# Altium schematic symbol library Power_DiscreteSSR_1.SCHLIB: 79 symbols (part 1 of 3)
Pins are listed as number, name and electrical type; pins without a type are passive.

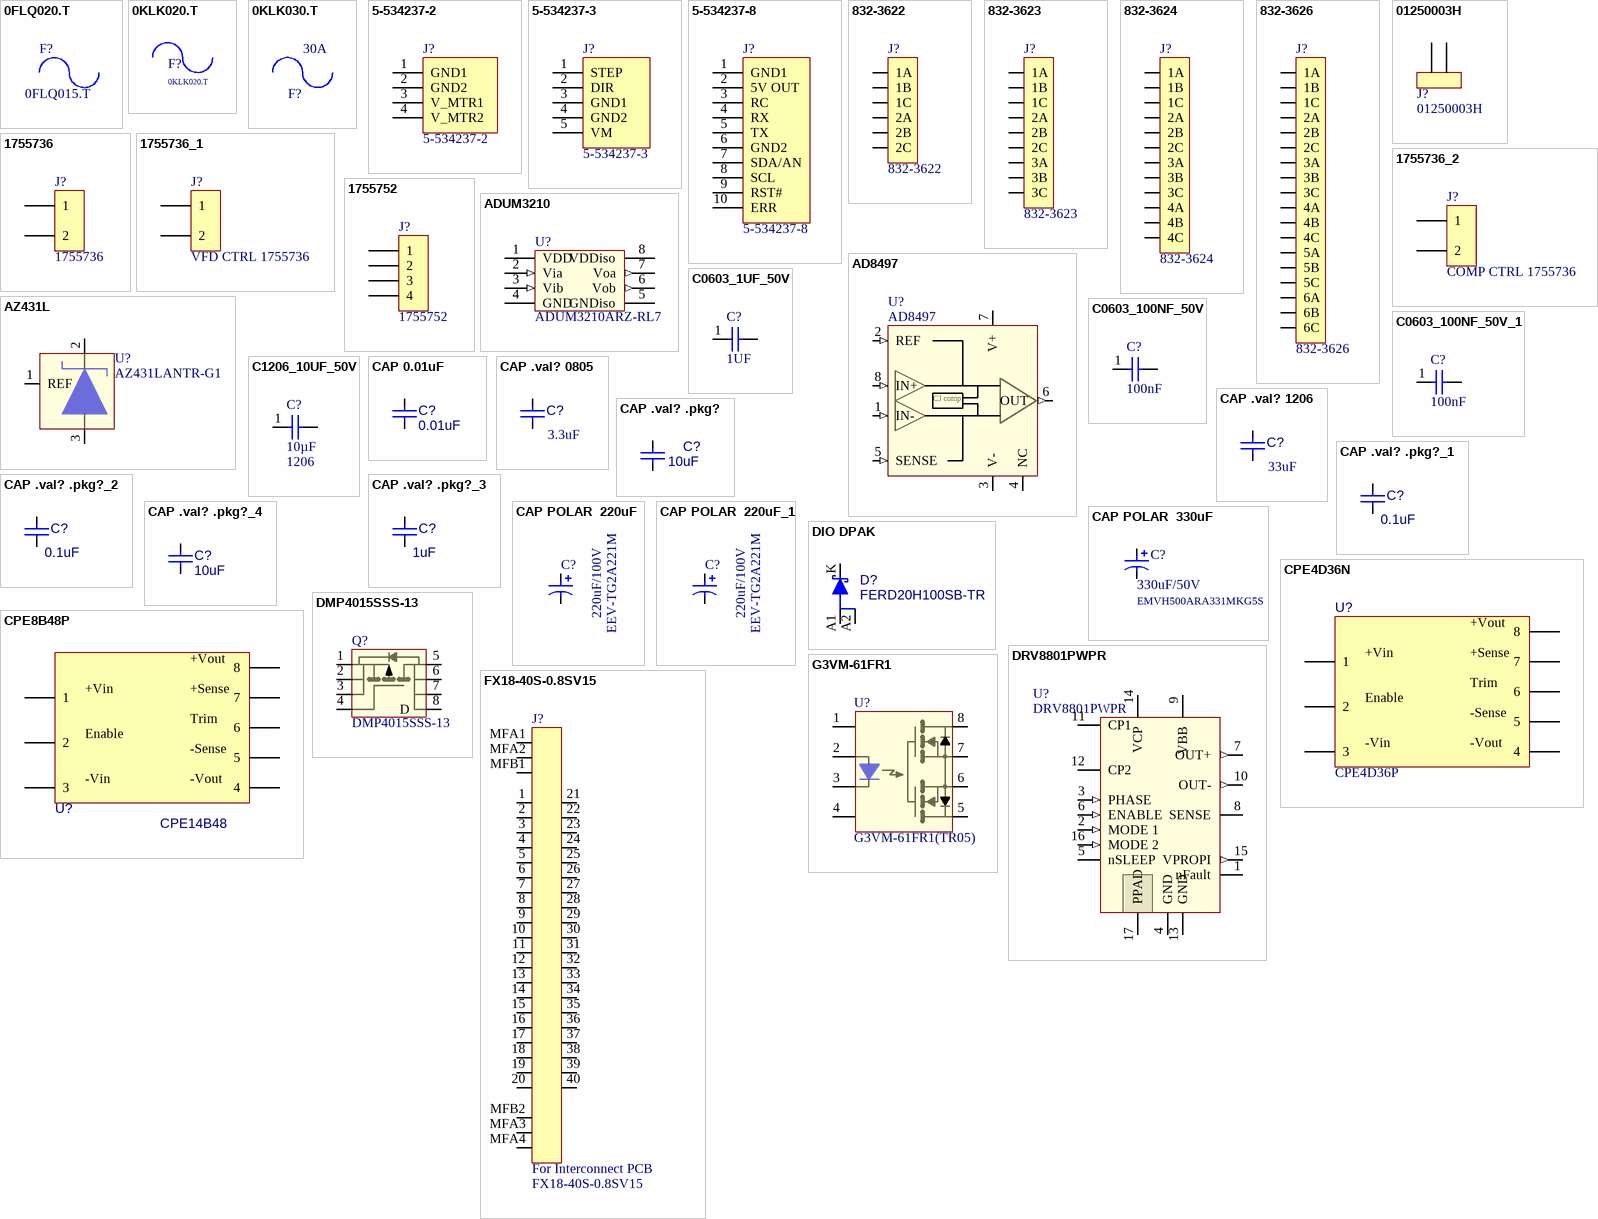
[diagram p0: symbols 0FLQ020.T to G3VM-61FR1]

## 0FLQ020.T
designator F?, comment 0FLQ015.T  (mechanical)
FUSE, 15A, 500V, SLOW BLOW; Manufacturer 1: Littelfuse; Type: Electrical; Current Rating: 1.5A; Resistance: 383.5mR; Voltage Rating (DC): 300V; Blow Characteristic: TIME DELAY; Approvals: UL,CSA; ComponentLink1URL: https://datasheet.ciiva.com/317/littelfuse-fuse-klk-317844.pdf?src-supplier=Digi-Key; ComponentLink1Description: https://datasheet.ciiva.com/317/littelfuse-fuse-klk-317844.pdf?src-supplier=Digi-Key; ComponentLink2URL: https://datasheet.ciiva.com/14102/epklk-dat-e-14102718.pdf?src-supplier=Distrelec; ComponentLink2Description: https://datasheet.ciiva.com/14102/epklk-dat-e-14102718.pdf?src-supplier=Distrelec; ComponentLink3URL: https://datasheet.ciiva.com/1548/1842486-1548255.pdf?src-supplier=Element14; ComponentLink3Description: https://datasheet.ciiva.com/1548/1842486-1548255.pdf?src-supplier=Element14; Supplier 1: Arrow Electronics; Supplier Part Number 1: 0FLQ015.T; Manufacturer Part Number 1: 0FLQ015.T; RoHS: Yes; Category: Fuses; Stock 1: 5; Pricing 1: 1=4.53100, 5=4.31900, 10=3.30800, 25=3.21500, 50=3.21100, 100=3.07600, 10=16.01000, 100=15.57000, 1000=13.14000, 5000=12.04000, 10000=12.03000 (USD); Mount: Holder,Clip,Surface Mount; Number of Pins: 2; Min Operating Temperature: -55°C; Max Operating Temperature: 125°C; Package Quantity: 10; Packaging: Bulk; Voltage Rating (AC): 500V; Termination: Clip; Fuse Current: 15A; Series: FLQ; Diameter: 0.406inch; Length: 38.1mm; Radiation Hardening: No; RoHS Compliant: Yes; REACH SVHC: No SVHC; Lead Free: Lead Free; Manufacturer: Littelfuse; Manufacturer Part Number: 0FLQ015.T

## 0KLK020.T
designator F?  (mechanical)
FUSE CARTRIDGE 20A 600VAC/500VDC; Manufacturer: Littelfuse; Body Material: Ceramic; Voltage Rating: 600V; Voltage Rating (DC): 500V; Type: Electrical; Resistance: 4.21mR; Approvals: UL,CSA,CE,QPL; Supplier 1: Mouser; RoHS: Yes; Category: Fuses; Stock 1: 180; Pricing 1: 1=14.23000, 5=13.95000, 10=12.79000, 20=12.79000, 50=12.40000, 100=10.46000 (USD); Mount: Holder,Clip; Min Operating Temperature: -55°C; Max Operating Temperature: 125°C; Package Quantity: 10; Packaging: Bulk; Termination: Clip; Current Rating: 20A; Voltage Rating (AC): 600V; Fuse Current: 20A; Working Voltage: 600V; Diameter: 0.406inch; Length: 38.1mm; Lead Free: Lead Free; REACH SVHC: Unknown; ComponentLink1URL: https://datasheet.ciiva.com/317/littelfuse-fuse-klk-317844.pdf?src-supplier=Digi-Key; ComponentLink1Description: https://datasheet.ciiva.com/317/littelfuse-fuse-klk-317844.pdf?src-supplier=Digi-Key; ComponentLink2URL: https://datasheet.ciiva.com/14102/epklk-dat-e-14102718.pdf?src-supplier=Distrelec; ComponentLink2Description: https://datasheet.ciiva.com/14102/epklk-dat-e-14102718.pdf?src-supplier=Distrelec; ComponentLink3URL: https://datasheet.ciiva.com/1548/1842486-1548255.pdf?src-supplier=Element14; ComponentLink3Description: https://datasheet.ciiva.com/1548/1842486-1548255.pdf?src-supplier=Element14; Manufacturer Part Number: 0KLK020.T

## 0KLK030.T
designator F?  Current Rating: 30A  (hidden comment: 0KLK030.T)  (mechanical)
FUSE CARTRIDGE 30A 600VAC/500VDC; Manufacturer: Littelfuse; Voltage Rating (DC): 500V; Voltage Rating (AC): 600V; Type: Electrical; Resistance: 2.816mR; Approvals: UL,CSA,CE,QPL; Supplier 1: Arrow; Manufacturer Part Number: 0KLK030.T; RoHS: Yes; Category: Fuses; Stock 1: 400; Pricing 1: 1=7.53700, 1=8.44690, 5=8.18000, 10=7.88100, 20=7.69900, 50=7.51500, 100=7.03100, 200=6.76700, 500=6.51300, 1000=6.25800 (USD); Mount: Holder,Clip; Number of Pins: 2; Min Operating Temperature: -55°C; Max Operating Temperature: 125°C; Package Quantity: 10; Voltage Rating: 600V; Packaging: Bulk; Termination: Clip; Fuse Current: 30A; Working Voltage: 600V; Diameter: 10.31mm; Length: 38.1mm; Radiation Hardening: No; Lead Free: Lead Free; REACH SVHC: Unknown; ComponentLink1URL: https://datasheet.ciiva.com/14102/epklk-dat-e-14102720.pdf?src-supplier=Distrelec; ComponentLink1Description: https://datasheet.ciiva.com/14102/epklk-dat-e-14102720.pdf?src-supplier=Distrelec; ComponentLink2URL: https://datasheet.ciiva.com/1548/1842486-1548256.pdf?src-supplier=Element14; ComponentLink2Description: https://datasheet.ciiva.com/1548/1842486-1548256.pdf?src-supplier=Element14; ComponentLink3URL: https://datasheet.ciiva.com/317/littelfuse-fuse-klk-317843.pdf?src-supplier=Digi-Key; ComponentLink3Description: https://datasheet.ciiva.com/317/littelfuse-fuse-klk-317843.pdf?src-supplier=Digi-Key; Supplier Part Number 1: 0KLK030.T

## 5-534237-2
designator J?
CONN RCPT 4POS 0.1 GOLD PCB; Manufacturer: TE Connectivity AMP Connectors; Connector Type: Header, Unshrouded; Number of Positions: 4; Number of Positions Loaded: All; Pitch: 0.100" (2.54mm); RoHS: RoHS Compliant; Category: Connectors, Interconnects; Stock 1: 5,967; Pricing 1: 1=1.45000, 10=1.31100, 100=1.12410, 500=0.93678, 1,000=0.80295, 5,000=0.71195 (USD); Packaging: Tube; Contact Type: Female Socket; Number of Rows: 1; Row Spacing: -; Contact Mating Length: 0.148" (3.76mm); Mounting Type: Through Hole; Termination: Solder; Fastening Type: -; Features: -; Contact Finish: Gold; Contact Finish Thickness: 15µin (0.38µm); Color: Black; Supplier 1: Digi-Key; Supplier Part Number 1: A32905-ND; Manufacturer Part Number: 5-534237-2; Manufacturer 1: TE Connectivity AMP Connectors; Manufacturer Part Number 1: 5-534237-2; ComponentLink1Description: https://www.te.com/commerce/DocumentDelivery/DDEController?Action=srchrtrv&DocNm=534237&DocType=Customer+Drawing&DocLang=English; ComponentLink1URL: https://www.te.com/commerce/DocumentDelivery/DDEController?Action=srchrtrv&DocNm=534237&DocType=Customer+Drawing&DocLang=English
footprint TE_5-534237-2
pins: 1 GND1, 2 GND2, 3 V_MTR1, 4 V_MTR2

## 5-534237-3
designator J?
CONN RCPT 5POS 0.1 GOLD PCB; Manufacturer: TE Connectivity AMP Connectors; Connector Type: Header, Unshrouded; Number of Positions: 5; Number of Positions Loaded: All; Pitch: 0.100" (2.54mm); RoHS: RoHS Compliant; Category: Connectors, Interconnects; Stock 1: 4,078; Pricing 1: 1=1.55000, 10=1.41000, 100=1.20900, 500=1.00748, 1,000=0.86355, 5,000=0.76568 (USD); Packaging: Tube; Contact Type: Female Socket; Number of Rows: 1; Row Spacing: -; Contact Mating Length: 0.148" (3.76mm); Mounting Type: Through Hole; Termination: Solder; Fastening Type: -; Features: -; Contact Finish: Gold; Contact Finish Thickness: 15µin (0.38µm); Color: Black; Supplier 1: Digi-Key; Supplier Part Number 1: A32906-ND; Manufacturer Part Number: 5-534237-3; Manufacturer 1: TE Connectivity AMP Connectors; Manufacturer Part Number 1: 5-534237-3; ComponentLink1Description: https://www.te.com/commerce/DocumentDelivery/DDEController?Action=srchrtrv&DocNm=534237&DocType=Customer+Drawing&DocLang=English; ComponentLink1URL: https://www.te.com/commerce/DocumentDelivery/DDEController?Action=srchrtrv&DocNm=534237&DocType=Customer+Drawing&DocLang=English
footprint TE_5-534237-3
pins: 1 STEP, 2 DIR, 3 GND1, 4 GND2, 5 VM

## 5-534237-8
designator J?
CONN RCPT 10POS 0.1 GOLD PCB; Manufacturer: TE Connectivity AMP Connectors; Connector Type: Header, Unshrouded; Number of Positions: 10; Number of Positions Loaded: All; Pitch: 0.100" (2.54mm); RoHS: RoHS Compliant; Category: Connectors, Interconnects; Stock 1: 2,637; Pricing 1: 1=2.45000, 10=2.22700, 100=1.90890, 500=1.59076, 1,000=1.36350 5,000=1.20897 (USD); Packaging: Tube; Contact Type: Female Socket; Number of Rows: 1; Row Spacing: -; Contact Mating Length: 0.148" (3.76mm); Mounting Type: Through Hole; Termination: Solder; Fastening Type: -; Features: -; Contact Finish: Gold; Contact Finish Thickness: 15µin (0.38µm); Color: Black; Supplier 1: Digi-Key; Supplier Part Number 1: A32910-ND; Manufacturer Part Number: 5-534237-8; Manufacturer 1: TE Connectivity AMP Connectors; Manufacturer Part Number 1: 5-534237-8; ComponentLink1Description: https://www.te.com/commerce/DocumentDelivery/DDEController?Action=srchrtrv&DocNm=534237&DocType=Customer+Drawing&DocLang=English; ComponentLink1URL: https://www.te.com/commerce/DocumentDelivery/DDEController?Action=srchrtrv&DocNm=534237&DocType=Customer+Drawing&DocLang=English
footprint TE_5-534237-8
pins: 1 GND1, 2 5V OUT, 3 RC, 4 RX, 5 TX, 6 GND2, 7 SDA/AN, 8 SCL, 9 RST#, 10 ERR

## 832-3622
designator J?
832 Series MCS MAXI 16 2 Pole Cage Clamp with Lever Through Hole Male Connector; Manufacturer: WAGO; Supplier 1: Newark; Manufacturer Part Number: 832-3622; Stock 1: 100; Pricing 1: 1=2.24000, 25=2.24000, 100=2.24000, 250=2.24000, 500=2.24000 (USD); ComponentLink1URL: http://datasheet.octopart.com/832-3622-WAGO-datasheet-121832905.pdf?src-supplier=Future+Electronics; ComponentLink1Description: http://datasheet.octopart.com/832-3622-WAGO-datasheet-121832905.pdf?src-supplier=Future+Electronics; ComponentLink2URL: http://datasheet.octopart.com/832-3622-WAGO-datasheet-140899062.pdf?src-supplier=Future+Electronics; ComponentLink2Description: http://datasheet.octopart.com/832-3622-WAGO-datasheet-140899062.pdf?src-supplier=Future+Electronics; Supplier Part Number 1: 85AC3341; System: Connector
footprint W-832-3622_6
pins: 1A, 1B, 1C, 2A, 2B, 2C

## 832-3623
designator J?
832 Series MCS MAXI 16 3 Pole Cage Clamp with Lever Through Hole Male Connector; Manufacturer: WAGO; Supplier 1: Newark; Manufacturer Part Number: 832-3623; Stock 1: 100; Pricing 1: 1=3.36000, 25=3.36000, 100=3.36000, 250=3.36000, 500=3.36000 (USD); ComponentLink1URL: http://datasheet.octopart.com/832-3623-WAGO-datasheet-121832906.pdf?src-supplier=Future+Electronics; ComponentLink1Description: http://datasheet.octopart.com/832-3623-WAGO-datasheet-121832906.pdf?src-supplier=Future+Electronics; ComponentLink2URL: http://datasheet.octopart.com/832-3623-WAGO-datasheet-140899063.pdf?src-supplier=Future+Electronics; ComponentLink2Description: http://datasheet.octopart.com/832-3623-WAGO-datasheet-140899063.pdf?src-supplier=Future+Electronics; Supplier Part Number 1: 85AC3342; System: Connector
footprint W-832-3623_9
pins: 1A, 1B, 1C, 2A, 2B, 2C, 3A, 3B, 3C

## 832-3624
designator J?
Terminal Block, Header, 10.16 mm, 4 Positions, 76 A, 1 kV, Through Hole Right Angle; Manufacturer: WAGO; System: Connector; Supplier 1: Newark; Manufacturer Part Number: 832-3624; RoHS: No; Stock 1: 40; Pricing 1: 1=4.46000, 25=4.46000, 100=4.46000, 250=4.46000, 500=4.46000 (USD); Supplier Part Number 1: 85AC3343
footprint W-832-3624_12
pins: 1A, 1B, 1C, 2A, 2B, 2C, 3A, 3B, 3C, 4A, 4B, 4C

## 832-3626
designator J?
Wago Serie 832 832-3626 - 832-3626; System: Connector; Supplier 1: Newark; Manufacturer: WAGO; Manufacturer Part Number: 832-3626; Stock 1: 20; Pricing 1: 1=6.70000, 25=6.70000, 100=6.70000, 250=6.70000, 500=6.70000 (USD); Supplier Part Number 1: 85AC3345
footprint W-832-3626_18
pins: 1A, 1B, 1C, 2A, 2B, 2C, 3A, 3B, 3C, 4A, 4B, 4C, 5A, 5B, 5C, 6A, 6B, 6C

## 01250003H
designator J?
Fuse Clip, 250 V, 250 V, 20 A, Cartridge Fuse Clip, Pin, 1 RoHS Compliant: Yes; Manufacturer: Littelfuse; Body Material: Copper; Current Rating: 30A; Voltage Rating (DC): 250V; Fuse Current: 20A; Number of Circuits: 1; Supplier 1: Future Electronics; Manufacturer Part Number: 01250003H; RoHS: Yes; Category: Fuses; Stock 1: 2695; Pricing 1: 1=2.62000, 30=2.35000, 100=2.26000, 300=2.18000, 1000=2.10000 (USD); Mount: Horizontal,PCB; Contact Plating: Tin; Material: Copper,Tin; Voltage Rating (AC): 250V; Packaging: Bulk; Package Quantity: 100; Voltage Rating: 250V; Termination: PC Pin; Voltage: 250V; Length: 12.4mm; Height: 18.7mm; Width: 12.4mm; Depth: 11.1mm; Lead Free: Lead Free; REACH SVHC: Unknown; ComponentLink1URL: https://datasheet.ciiva.com/15187/getdatasheetpartid-123617-15187910.pdf?src-supplier=Verical; ComponentLink1Description: https://datasheet.ciiva.com/15187/getdatasheetpartid-123617-15187910.pdf?src-supplier=Verical; ComponentLink2URL: https://datasheet.ciiva.com/295/0105-129-clips-295567.pdf?src-supplier=Digi-Key; ComponentLink2Description: https://datasheet.ciiva.com/295/0105-129-clips-295567.pdf?src-supplier=Digi-Key; ComponentLink3URL: https://datasheet.ciiva.com/1269/1480080-1269308.pdf?src-supplier=Element14; ComponentLink3Description: https://datasheet.ciiva.com/1269/1480080-1269308.pdf?src-supplier=Element14; Supplier Part Number 1: 01250003H-BOX; Manufacturer Part Number 2: 1A3400-10; Manufacturer 2: Bussmann-Eaton
footprint FUSE_CLIP_01250003H
pins: 1, 2

## 1755736
designator J?
Combicon Series Side Panels Plug In Vertical To Pcb 2pos 12a 250vac Green Plastic Housing 5.08mm Pitch 5.08mm Length; Manufacturer: Phoenix Contact; Voltage Rating: 250V; Number of Poles: 2; Number of Levels: 1; Voltage: 300V; Gender: Male; Approvals: UL,CSA,VDE,cULus,CB; System: Connector; Supplier 1: Digi-Key; Manufacturer Part Number: 1755736; RoHS: Yes; Category: Terminal Blocks; Stock 1: 14871; Pricing 1: 1=0.64000, 10=0.61600, 50=0.58900, 100=0.57300, 250=0.53552, 500=0.49266, 1000=0.45518, 2500=0.43375, 5000=0.40698 (USD); Mount: Through Hole; Weight: 5.467464oz; Color: Green; Contact Plating: Tin; Housing Color: Green; Housing Material: Polybutylene; Contact Material: Tin; Package Quantity: 50; Packaging: Bulk; Termination: Solder; Orientation: Straight; Voltage Rating (DC): 250V; Number of Rows: 1; Max Current Rating: 12A; Current Rating: 12A; Number of Positions Per Level: 2; Current: 12A; Number of Positions: 2; Number of Contacts: 2; Connector Type: Plug; Length: 12.16mm; Height: 12.16mm; Width: 15.9mm; Depth: 8.6mm; Pitch: 5.08mm; REACH SVHC: No SVHC; Lead Free: Lead Free; Flammability Rating: UL94 V-0; ComponentLink1URL: https://datasheet.ciiva.com/795/1755736-795408.pdf?src-supplier=Digi-Key; ComponentLink1Description: https://datasheet.ciiva.com/795/1755736-795408.pdf?src-supplier=Digi-Key; ComponentLink2URL: https://datasheet.ciiva.com/3934/1755736-3934562.pdf?src-supplier=Arrow; ComponentLink2Description: https://datasheet.ciiva.com/3934/1755736-3934562.pdf?src-supplier=Arrow; ComponentLink3URL: https://datasheet.ciiva.com/15197/getdatasheetpartid-176344-15197314.pdf?src-supplier=Verical; ComponentLink3Description: https://datasheet.ciiva.com/15197/getdatasheetpartid-176344-15197314.pdf?src-supplier=Verical; Supplier Part Number 1: 277-1150-ND; Supplier 2: Digi-Key; Supplier Part Number 2: 0447641803-ND
footprint PHX-1755736 (TERM BLOCK HDR 2POS VERT 5.08MM)
pins: 1, 2

## 1755736_1
designator J?, comment VFD CTRL 1755736
Combicon Series Side Panels Plug In Vertical To Pcb 2pos 12a 250vac Green Plastic Housing 5.08mm Pitch 5.08mm Length; Manufacturer: Phoenix Contact; Voltage Rating: 250V; Number of Poles: 2; Number of Levels: 1; Voltage: 300V; Gender: Male; Approvals: UL,CSA,VDE,cULus,CB; System: Connector; Supplier 1: Digi-Key; Manufacturer Part Number: 1755736; RoHS: Yes; Category: Terminal Blocks; Stock 1: 14871; Pricing 1: 1=0.64000, 10=0.61600, 50=0.58900, 100=0.57300, 250=0.53552, 500=0.49266, 1000=0.45518, 2500=0.43375, 5000=0.40698 (USD); Mount: Through Hole; Weight: 5.467464oz; Color: Green; Contact Plating: Tin; Housing Color: Green; Housing Material: Polybutylene; Contact Material: Tin; Package Quantity: 50; Packaging: Bulk; Termination: Solder; Orientation: Straight; Voltage Rating (DC): 250V; Number of Rows: 1; Max Current Rating: 12A; Current Rating: 12A; Number of Positions Per Level: 2; Current: 12A; Number of Positions: 2; Number of Contacts: 2; Connector Type: Plug; Length: 12.16mm; Height: 12.16mm; Width: 15.9mm; Depth: 8.6mm; Pitch: 5.08mm; REACH SVHC: No SVHC; Lead Free: Lead Free; Flammability Rating: UL94 V-0; ComponentLink1URL: https://datasheet.ciiva.com/795/1755736-795408.pdf?src-supplier=Digi-Key; ComponentLink1Description: https://datasheet.ciiva.com/795/1755736-795408.pdf?src-supplier=Digi-Key; ComponentLink2URL: https://datasheet.ciiva.com/3934/1755736-3934562.pdf?src-supplier=Arrow; ComponentLink2Description: https://datasheet.ciiva.com/3934/1755736-3934562.pdf?src-supplier=Arrow; ComponentLink3URL: https://datasheet.ciiva.com/15197/getdatasheetpartid-176344-15197314.pdf?src-supplier=Verical; ComponentLink3Description: https://datasheet.ciiva.com/15197/getdatasheetpartid-176344-15197314.pdf?src-supplier=Verical; Supplier Part Number 1: 277-1150-ND; Supplier 2: Digi-Key; Supplier Part Number 2: 0447641803-ND
footprint PHX-1755736 (TERM BLOCK HDR 2POS VERT 5.08MM)
pins: 1, 2

## 1755736_2
designator J?, comment COMP CTRL 1755736
Combicon Series Side Panels Plug In Vertical To Pcb 2pos 12a 250vac Green Plastic Housing 5.08mm Pitch 5.08mm Length; Manufacturer: Phoenix Contact; Voltage Rating: 250V; Number of Poles: 2; Number of Levels: 1; Voltage: 300V; Gender: Male; Approvals: UL,CSA,VDE,cULus,CB; System: Connector; Supplier 1: Digi-Key; Manufacturer Part Number: 1755736; RoHS: Yes; Category: Terminal Blocks; Stock 1: 14871; Pricing 1: 1=0.64000, 10=0.61600, 50=0.58900, 100=0.57300, 250=0.53552, 500=0.49266, 1000=0.45518, 2500=0.43375, 5000=0.40698 (USD); Mount: Through Hole; Weight: 5.467464oz; Color: Green; Contact Plating: Tin; Housing Color: Green; Housing Material: Polybutylene; Contact Material: Tin; Package Quantity: 50; Packaging: Bulk; Termination: Solder; Orientation: Straight; Voltage Rating (DC): 250V; Number of Rows: 1; Max Current Rating: 12A; Current Rating: 12A; Number of Positions Per Level: 2; Current: 12A; Number of Positions: 2; Number of Contacts: 2; Connector Type: Plug; Length: 12.16mm; Height: 12.16mm; Width: 15.9mm; Depth: 8.6mm; Pitch: 5.08mm; REACH SVHC: No SVHC; Lead Free: Lead Free; Flammability Rating: UL94 V-0; ComponentLink1URL: https://datasheet.ciiva.com/795/1755736-795408.pdf?src-supplier=Digi-Key; ComponentLink1Description: https://datasheet.ciiva.com/795/1755736-795408.pdf?src-supplier=Digi-Key; ComponentLink2URL: https://datasheet.ciiva.com/3934/1755736-3934562.pdf?src-supplier=Arrow; ComponentLink2Description: https://datasheet.ciiva.com/3934/1755736-3934562.pdf?src-supplier=Arrow; ComponentLink3URL: https://datasheet.ciiva.com/15197/getdatasheetpartid-176344-15197314.pdf?src-supplier=Verical; ComponentLink3Description: https://datasheet.ciiva.com/15197/getdatasheetpartid-176344-15197314.pdf?src-supplier=Verical; Supplier Part Number 1: 277-1150-ND; Supplier 2: Digi-Key; Supplier Part Number 2: 0447641803-ND
footprint PHX-1755736 (TERM BLOCK HDR 2POS VERT 5.08MM)
pins: 1, 2

## 1755752
designator J?
Terminal Header; 12 A; 250 V; 5.08 mm; 4; Solder Mount; 1.4 mm; 4 kV; 250 V; Manufacturer: Phoenix Contact; Current Rating: 12A; Number of Poles: 4; Voltage Rating: 250V; Number of Levels: 1; Voltage: 300V; Gender: Male; Connector Type: Plug; Pitch: 5.08mm; Approvals: UL,CSA,VDE,cULus,CB; System: Connector; Supplier 1: Digi-Key; Manufacturer Part Number: 1755752; RoHS: Yes; Category: Terminal Blocks; Stock 1: 9524; Pricing 1: 1=1.40000, 10=1.34000, 50=1.28200, 100=1.24710, 250=1.16552, 500=1.07226, 1000=0.99067, 2500=0.94405, 5000=0.88578 (USD); Mount: Through Hole; Weight: 5.467464oz; Color: Green,Grey; Contact Plating: Tin; Housing Color: Green; Housing Material: Polybutylene; Contact Material: Tin; Package Quantity: 50; Packaging: Bulk; Number of Rows: 1; Max Current Rating: 12A; Number of Positions Per Level: 4; Termination: Solder; Current: 12A; Number of Positions: 4; Number of Contacts: 4; Orientation: Straight; Voltage Rating (DC): 250V; Length: 22.32mm; Height: 15.9mm; Depth: 8.6mm; Width: 22.32mm; REACH SVHC: No SVHC; Lead Free: Lead Free; Flammability Rating: UL94 V-0; ComponentLink1URL: https://datasheet.ciiva.com/15197/getdatasheetpartid-198278-15197316.pdf?src-supplier=Verical; ComponentLink1Description: https://datasheet.ciiva.com/15197/getdatasheetpartid-198278-15197316.pdf?src-supplier=Verical; ComponentLink2URL: https://datasheet.ciiva.com/795/1755752-795435.pdf?src-supplier=Digi-Key; ComponentLink2Description: https://datasheet.ciiva.com/795/1755752-795435.pdf?src-supplier=Digi-Key; ComponentLink3URL: https://datasheet.ciiva.com/16096/1755752-16096364.pdf?src-supplier=Onlinecomponents.com; ComponentLink3Description: https://datasheet.ciiva.com/16096/1755752-16096364.pdf?src-supplier=Onlinecomponents.com; Supplier Part Number 1: 277-1152-ND
footprint PHX-1755752 (TERM BLOCK HDR 4POS VERT 5.08MM)
pins: 1, 2, 3, 4

## AD8497
designator U?
IC THERMOCOUPLE A W/COMP 8MSOP; Manufacturer: Analog Devices; Manufacturer Part Number: AD8497ARMZ; Max Supply Voltage: 18V; Min Supply Voltage: 2.7V; Nominal Supply Current: 180uA; Interface: Analog; Gain Bandwidth Product: 25kHz; Max Supply Current: 250uA; Supplier 1: Mouser; Supplier Part Number 1: 584-AD8497CRMZ; RoHS: Yes; Category: Integrated Circuits (ICs); Stock 1: 832; Pricing 1: 1=10.51000, 10=9.50000, 25=9.05000, 50=8.76000, 100=7.51000, 250=6.85000 (USD); Case/Package: MSOP; Number of Pins: 8; Contact Plating: Tin,Matte; Min Operating Temperature: -40°C; Max Operating Temperature: 125°C; Package Quantity: 50; Packaging: Rail/Tube; Operating Supply Current: 180uA; Output Type: Analog; Dual Supply Voltage: 18V; Length: 3.2mm; Height: 0.95mm; Width: 3.2mm; Lead Free: Lead Free; REACH SVHC: No SVHC; ComponentLink1URL: https://datasheet.ciiva.com/15098/getdatasheetpartid-292295-15098879.pdf?src-supplier=Verical; ComponentLink1Description: https://datasheet.ciiva.com/15098/getdatasheetpartid-292295-15098879.pdf?src-supplier=Verical; ComponentLink2URL: https://datasheet.ciiva.com/26838/ad8497crmz-26838665.pdf?src-supplier=IIIC; ComponentLink2Description: https://datasheet.ciiva.com/26838/ad8497crmz-26838665.pdf?src-supplier=IIIC; ComponentLink3URL: https://datasheet.ciiva.com/1781/ad8494-8495-8496-8497-1781910.pdf?src-supplier=Digi-Key; ComponentLink3Description: https://datasheet.ciiva.com/1781/ad8494-8495-8496-8497-1781910.pdf?src-supplier=Digi-Key; Manufacturer 1: Analog Devices; Manufacturer Part Number 1: AD8497ARMZ
footprint MSOP_8_12mil_space
pins: 1 IN- (in), 2 REF (in), 3 V- (power), 4 NC, 5 SENSE (in), 6 OUT (out), 7 V+ (power), 8 IN+ (in)
text: CJ comp

## ADUM3210
designator U?  Manufacturer Part Number 1: ADUM3210ARZ-RL7  (hidden comment: ADUM3210)
Digital Isolator CMOS 2-CH 1Mbps 8-Pin SOIC N T/R; Manufacturer 1: Analog Devices; Number of Channels: 2; Propagation Delay: 50ns; Min Supply Voltage: 2.7V; Max Supply Voltage: 5.5V; Nominal Supply Current: 800uA; Data Rate: 10Mbps; Channel Type: Unidirectional; Isolation Voltage: 560V; Isolated Power: No; Pulse Width Distortion (PWD): 5ns; Case/Package: R; Number of Pins: 8; Contact Plating: Tin,Matte; Min Operating Temperature: -40°C; Max Operating Temperature: 125°C; Package Quantity: 1000; Packaging: Tape and Reel; Number of Input Lines: 2; Turn-On Delay Time: 50ns; Type: General Purpose; Series: iCoupler®; Supply Current: 800uA; Lead Free: Contains Lead; RoHS Compliant: Yes; ComponentLink1URL: http://components.arrow.com/part/dataview/48250290S8419763N2771?src-supplier=Arrow+Electronics; ComponentLink1Description: http://components.arrow.com/part/dataview/48250290S8419763N2771?src-supplier=Arrow+Electronics; ComponentLink2URL: http://www.mouser.com/ds/2/609/ADuM3210-EP_3211-EP-879034.pdf?src-supplier=Mouser; ComponentLink2Description: http://www.mouser.com/ds/2/609/ADuM3210-EP_3211-EP-879034.pdf?src-supplier=Mouser; ComponentLink3URL: http://components.arrow.com/part/dataview/1762_00522917?src-supplier=Arrow+Europe; ComponentLink3Description: http://components.arrow.com/part/dataview/1762_00522917?src-supplier=Arrow+Europe; Pricing 1: 1=2.92000, 10=2.63000, 50=2.48000, 100=2.04000, 1000=1.55000, 10000=1.55000 (USD); Stock 1: 78; Category: Interface ICs; RoHS: Yes; Supplier Part Number 1: 584-ADUM3210ARZ-R7; Supplier 1: Mouser; Manufacturer: Analog Devices; Manufacturer Part Number: ADUM3210ARZ-RL7
footprint SOIC_8
pins: 1 VDD (power), 2 Via (in), 3 Vib (in), 4 GND (power), 5 GNDiso (power), 6 Vob (out), 7 Voa (out), 8 VDDiso (power)

## AZ431L
designator U?  Manufacturer Part Number: AZ431LANTR-G1  (hidden comment: AZ431L)
V-Ref Adjustable/Precision 1.24V to 18V 100mA 3-Pin TO-92 Ammo Pack; Manufacturer: Diodes; Reference Type: Shunt; Tolerance: 0.5%; Temperature Coefficient: 20ppm/°C; Cathode Current: 80uA; RoHS: Yes; Category: Voltage References; Stock 1: 288; Pricing 1: 1=0.45000, 10=0.33700, 25=0.30400, 100=0.16580, 250=0.16024 (USD); Mount: SMD; Case/Package: SOT23; Number of Pins: 3; Min Operating Temperature: -40°C; Max Operating Temperature: 125°C; Packaging: Tape and Reel; Output Current: 100mA; Output Type: Adjustable; Min Output Voltage: 1.24V; Package Quantity: 3000; Max Output Voltage: 18V; Output Voltage: 18V; Max Output Current: 100mA; Max Input Voltage: 18V; Radiation Hardening: No; ComponentLink1URL: https://datasheet.ciiva.com/29571/az431l-29571949.pdf?src-supplier=Digi-Key; ComponentLink1Description: https://datasheet.ciiva.com/29571/az431l-29571949.pdf?src-supplier=Digi-Key; ComponentLink2URL: https://datasheet.ciiva.com/30002/az431l-30002056.pdf?src-supplier=Avnet; ComponentLink2Description: https://datasheet.ciiva.com/30002/az431l-30002056.pdf?src-supplier=Avnet; Supplier 1: Digi-Key; Supplier Part Number 1: AZ431LANTR-G1DICT-ND
footprint SOT23_L (SOT23, 3-Leads, Body 2.9x1.3mm, Pitch 0.95mm, Lead Span 2.3mm - Reverse Pinning, IPC High Density)
pins: 1 REF, 2 K, 3 A

## C0603_1UF_50V
designator C?, comment 1UF
CAP CER 1UF 50V X5R 0603; Manufacturer 1: TDK; Manufacturer Part Number 1: CGA3E3X5R1H105K080AB; Tolerance: 10%; ComponentLink1URL: https://product.tdk.com/info/en/catalog/datasheets/mlcc_automotive_general_en.pdf; ComponentLink1Description: https://product.tdk.com/info/en/catalog/datasheets/mlcc_automotive_general_en.pdf; Mount: Surface Mount; Case/Package: 0603; Weight: 7.1E-05oz; Case Code (Imperial): 0603; Case Code (Metric): 1608; Min Operating Temperature: -55°C; Max Operating Temperature: 85°C; Capacitance: 1uF; Voltage Rating: 50V; Voltage Rating (DC): 50V; Packaging: Tape and Reel; Package Quantity: 1; Termination: SMD/SMT; Composition: Ceramic; Dielectric: X5R; Length: 1.6mm; Height: 0.8mm; Width: 0.8mm; Thickness: 0.031inch; Depth: 0.8mm; Ratings: AEC-Q200; Lead Free: Lead Free; REACH SVHC: No SVHC; ComponentLink2URL: https://datasheet.ciiva.com/24218/cga3e3x5r1h105k080ab-265988-24218999.pdf?src-supplier=Mouser; ComponentLink2Description: https://datasheet.ciiva.com/24218/cga3e3x5r1h105k080ab-265988-24218999.pdf?src-supplier=Mouser; ComponentLink3URL: https://datasheet.ciiva.com/7975/1807242-7975388.pdf?src-supplier=Element14; ComponentLink3Description: https://datasheet.ciiva.com/7975/1807242-7975388.pdf?src-supplier=Element14; Supplier 1: Digi-Key; Supplier Part Number 1: 445-7878-1-ND; RoHS: Yes; Category: Ceramic Capacitors; Stock 1: 200723; Pricing 1: 1=0.25000, 10=0.17300, 50=0.11560, 100=0.09820, 500=0.06930, 1000=0.06064 (USD); Manufacturer: TDK; Manufacturer Part Number: CGA3E3X5R1H105K080AB
footprint 0603R(1608)
pins: 1, 2

## C0603_100NF_50V
designator C?  value 100nF  (hidden comment: C0603_100NF_50V)
CAP CER 0.1UF 50V X5R 0603; Manufacturer: TDK Corporation; Manufacturer Part Number: CGA3E2X5R1H104K080AA; Manufacturer Two: Any equivalent to description; Manufacturer Two Part Number: Per manufacturer; Capacitance: 0.1µF; Tolerance: ±10%; Supplier 1: Digi-Key; Supplier Part Number 1: 445-12498-1-ND; RoHS: RoHS Compliant; Category: Capacitors; Stock 1: 8997; Pricing 1: 1=0.1, 10=0.076, 25=0.0552, 50=0.0414, 100=0.0338, 250=0.02828, 500=0.02416, 1000=0.01898 (USD); Packaging: Cut Tape (CT); Part Status: Active; Voltage - Rated: 50V; Temperature Coefficient: X5R; Operating Temperature: -55°C ~ 85°C; Features: -; Ratings: AEC-Q200; Applications: Automotive; Failure Rate: -; Mounting Type: Surface Mount, MLCC; Package / Case: 0603 (1608 Metric); Size / Dimension: 0.063" L x 0.031" W (1.60mm x 0.80mm); Height - Seated (Max): -; Thickness (Max): 0.035" (0.90mm); Lead Spacing: -; Lead Style: -; ComponentLink1URL: https://product.tdk.com/info/en/catalog/datasheets/mlcc_automotive_general_en.pdf; ComponentLink1Description: https://product.tdk.com/info/en/catalog/datasheets/mlcc_automotive_general_en.pdf
simulation model CAP (Capacitor)
signal-integrity model C0603
footprint 0603R(1608)
pins: 1, 2

## C0603_100NF_50V_1
designator C?, comment value 100nF  (hidden comment: C0603_100NF_50V)
CAP CER 0.1UF 50V X5R 0603; Manufacturer: TDK Corporation; Manufacturer Part Number: CGA3E2X5R1H104K080AA; Capacitance: 0.1µF; Tolerance: ±10%; Supplier 1: Digi-Key; Supplier Part Number 1: 445-12498-1-ND; RoHS: RoHS Compliant; Category: Capacitors; Stock 1: 8997; Pricing 1: 1=0.1, 10=0.076, 25=0.0552, 50=0.0414, 100=0.0338, 250=0.02828, 500=0.02416, 1000=0.01898 (USD); Packaging: Cut Tape (CT); Part Status: Active; Voltage - Rated: 50V; Temperature Coefficient: X5R; Operating Temperature: -55°C ~ 85°C; Features: -; Ratings: AEC-Q200; Applications: Automotive; Failure Rate: -; Mounting Type: Surface Mount, MLCC; Package / Case: 0603 (1608 Metric); Size / Dimension: 0.063" L x 0.031" W (1.60mm x 0.80mm); Height - Seated (Max): -; Thickness (Max): 0.035" (0.90mm); Lead Spacing: -; Lead Style: -; ComponentLink1URL: https://product.tdk.com/info/en/catalog/datasheets/mlcc_automotive_general_en.pdf; ComponentLink1Description: https://product.tdk.com/info/en/catalog/datasheets/mlcc_automotive_general_en.pdf; Manufacturer 1: TDK Corporation; Manufacturer Part Number 1: CGA3E2X5R1H104K080AA
footprint 0603R(1608)
pins: 1, 2

## C1206_10UF_50V
designator C?  value 10µF  Size: 1206  (hidden comment: C1206_10UF_50V)
CAP CER 10UF 50V X5R 1206; Manufacturer: TDK Corporation; Manufacturer Part Number: C3216X5R1H106M160AB; Manufacturer Two: Any equivalent to description; Manufacturer Two Part Number: Per manufacturer; Tolerance: ±20%; Supplier 1: Digi-Key; Supplier Part Number 1: 445-5999-1-ND; RoHS: RoHS Compliant; Category: Capacitors; Stock 1: 17969; Pricing 1: 1=0.93, 10=0.706, 100=0.5053, 1000=0.33689 (USD); Packaging: Cut Tape (CT); Part Status: Active; Capacitance: 10µF; Temperature Coefficient: X5R; Operating Temperature: -55°C ~ 85°C; Features: Low ESL; Ratings: -; Applications: General Purpose; Failure Rate: -; Mounting Type: Surface Mount, MLCC; Package / Case: 1206 (3216 Metric); Size / Dimension: 0.126" L x 0.063" W (3.20mm x 1.60mm); Height - Seated (Max): -; Thickness (Max): 0.071" (1.80mm); Lead Spacing: -; Lead Style: -; ComponentLink1URL: https://product.tdk.com/info/en/catalog/datasheets/mlcc_commercial_general_en.pdf; ComponentLink1Description: https://product.tdk.com/info/en/catalog/datasheets/mlcc_commercial_general_en.pdf; Voltage - Rated: 50V
simulation model CAP (Capacitor)
footprint 1206
pins: 1, 2

## CAP 0.01uF
designator C?, comment 0.01uF
CGA Series 0603 10 nF 50 V ±10 % Tolerance X7R SMT Multilayer Ceramic Capacitor; Manufacturer: TDK; Manufacturer Part Number: CGA3E2X7R1H103K080AA; Capacitance: 10nF; Tolerance: 10%; Voltage Rating: 50V; ComponentLink1URL: https://datasheet.ciiva.com/34303/2010229-34303808.pdf?src-supplier=Jameco; ComponentLink1Description: https://datasheet.ciiva.com/34303/2010229-34303808.pdf?src-supplier=Jameco; ComponentLink2URL: https://datasheet.ciiva.com/11786/0900766b80ed4be2-11786358.pdf?src-supplier=RSComponents; ComponentLink2Description: https://datasheet.ciiva.com/11786/0900766b80ed4be2-11786358.pdf?src-supplier=RSComponents; ComponentLink3URL: https://datasheet.ciiva.com/1458/1679506-1458124.pdf?src-supplier=Element14; ComponentLink3Description: https://datasheet.ciiva.com/1458/1679506-1458124.pdf?src-supplier=Element14; Supplier 1: Digi-Key; RoHS: Yes; Category: Ceramic Capacitors; Stock 1: 2508357; Pricing 1: 1=0.10000, 10=0.05400, 50=0.02960, 100=0.02430, 500=0.01732, 1000=0.01361 (USD); Mount: Surface Mount; Case/Package: 0603; Case Code (Metric): 1608; Case Code (Imperial): 0603; Weight: 7.1E-05oz; Min Operating Temperature: -55°C; Max Operating Temperature: 125°C; Packaging: Tape and Reel; Dielectric: X7R; Termination: SMD/SMT; Series: CGA; Package Quantity: 4000; Voltage Rating (DC): 50V; Resistor Type: Ceramic; Length: 0.063inch; Width: 0.031inch; Height: 0.8mm; Thickness: 0.035inch; Ratings: AEC-Q200; Lead Free: Lead Free; RoHS Compliant: Yes; REACH SVHC: No SVHC; Supplier Part Number 1: 445-5662-1-ND
simulation model CAP (Capacitor)
footprint 0603R(1608)
pins: 1, 2

## CAP .val? 0805
designator C?, comment Capacitance: 3.3uF  (hidden comment: ?)
TDK - C2012X5R1H335K125AB - Keramikvielschichtkondensator, SMD, 3.3 µF, 50 V, 0805 [Metrisch 2012], ± 10%, X5R, C Series TDK; _Verified Footprint: .mfr-pn? footprint?; _Verified BOM: .mfr-pn?; Dielectric Material: Ceramic; Voltage Rating: 50V; _Verified Symbol: .mfr-pn?; Supplier 1: Digi-Key; Supplier Part Number 1: 445-5978-1-ND; Manufacturer: TDK; Manufacturer Part Number: C2012X5R1H335K125AB; RoHS: Yes; Category: Ceramic Capacitors; Stock 1: 81023; Pricing 1: 1=0.70000, 10=0.49600, 50=0.37520, 100=0.32670, 500=0.24200, 1000=0.20570 (USD); Mount: Surface Mount; Case/Package: 0805; Weight: 0.000194oz; Case Code (Metric): 2012; Case Code (Imperial): 0805; Min Operating Temperature: -55°C; Max Operating Temperature: 85°C; Dielectric: X5R; Termination: SMD/SMT; Resistor Type: Ceramic; Package Quantity: 1; Tolerance: 10%; Packaging: Tape and Reel; Voltage Rating (DC): 50V; Length: 2mm; Height: 1.25mm; Thickness: 0.057inch; Depth: 1.25mm; Width: 0.049inch; REACH SVHC: No SVHC; Lead Free: Lead Free; ComponentLink1URL: https://datasheet.ciiva.com/24216/c2012x5r1h335k125ab-264893-24216187.pdf?src-supplier=Mouser; ComponentLink1Description: https://datasheet.ciiva.com/24216/c2012x5r1h335k125ab-264893-24216187.pdf?src-supplier=Mouser; ComponentLink2URL: https://datasheet.ciiva.com/6252/tdkmlcccaprange-6252695.pdf?src-supplier=Digi-Key; ComponentLink2Description: https://datasheet.ciiva.com/6252/tdkmlcccaprange-6252695.pdf?src-supplier=Digi-Key; ComponentLink3URL: https://datasheet.ciiva.com/6252/tdkmlcccaprange-6252693.pdf?src-supplier=Digi-Key; ComponentLink3Description: https://datasheet.ciiva.com/6252/tdkmlcccaprange-6252693.pdf?src-supplier=Digi-Key
simulation model CAP (Capacitor)
footprint CAPC2012X?N (Footprint not found)
footprint 0805
pins: 1, 2

## CAP .val? 1206
designator C?, comment Capacitance: 33uF  (hidden comment: ?)
Cap Ceramic 33uF 25V X5R 20% SMD 1206 85C T/R; Manufacturer: TDK; Manufacturer Part Number: C3216X5R1E336M160AC; _Verified Footprint: .mfr-pn? footprint?; _Verified BOM: .mfr-pn?; _Verified Symbol: .mfr-pn?; Supplier 1: Digi-Key; Supplier Part Number 1: 445-8046-1-ND; RoHS: Yes; Category: Ceramic Capacitors; Stock 1: 182277; Pricing 1: 1=1.15000, 10=0.90800, 50=0.78660, 100=0.68060, 500=0.51426, 1000=0.45375 (USD); Mount: Surface Mount; Case/Package: 1206; Weight: 0.000571oz; Dielectric Material: Ceramic; Case Code (Metric): 3216; Case Code (Imperial): 1206; Min Operating Temperature: -55°C; Max Operating Temperature: 85°C; Package Quantity: 1; Voltage Rating: 25V; Tolerance: 20%; Dielectric: X5R; Packaging: Tape and Reel; Voltage Rating (DC): 25V; Termination: SMD/SMT; Resistor Type: Ceramic; Length: 3.2mm; Width: 0.063inch; Thickness: 1.6mm; Depth: 1.6mm; Lead Free: Lead Free; REACH SVHC: No SVHC; ComponentLink1URL: https://datasheet.ciiva.com/24216/c3216x5r1e336m160ac-265051-24216512.pdf?src-supplier=Mouser; ComponentLink1Description: https://datasheet.ciiva.com/24216/c3216x5r1e336m160ac-265051-24216512.pdf?src-supplier=Mouser; ComponentLink2URL: https://datasheet.ciiva.com/6285/tdkmlcccaprange-6285278.pdf?src-supplier=Digi-Key; ComponentLink2Description: https://datasheet.ciiva.com/6285/tdkmlcccaprange-6285278.pdf?src-supplier=Digi-Key
simulation model CAP (Capacitor)
footprint CAPC3216X?N (Footprint not found)
footprint 1206
pins: 1, 2

## CAP .val? .pkg?
designator C?, comment 10uF
AVX - 1206YC106KAT2A - SMD Multilayer Ceramic Capacitor, 10 µF, 16 V, 1206 [3216 Metric], ± 10%, X7R, AVX 1206 MLCC; Manufacturer: Kyocera AVX; _Verified Footprint: .mfr-pn? footprint?; _Verified Symbol: .mfr-pn?; Voltage Rating: 16V; Dissipation Factor: 3.5%; _Verified BOM: .mfr-pn?; Supplier 1: Digi-Key; Supplier Part Number 1: 490-3886-1-ND; Supplier 2: Digi-Key; Supplier Part Number 2: 478-5725-1-ND; Manufacturer Part Number: 1206YC106KAT2A; RoHS: Yes; Category: Ceramic Capacitors; Stock 2: 77112; Pricing 2: 1=0.86000, 10=0.63100, 50=0.50480, 100=0.43270, 500=0.34256, 1000=0.28846 (USD); Mount: Surface Mount,PCB; Case/Package: 1206; Number of Pins: 2; Case Code (Metric): 3216; Case Code (Imperial): 1206; Min Operating Temperature: -55°C; Max Operating Temperature: 125°C; Capacitance: 10uF; Tolerance: 10%; Packaging: Tape and Reel; Package Quantity: 2500; Voltage Rating (DC): 16V; Dielectric: X7R; Termination: SMD/SMT; Voltage: 16V; Length: 3.2mm; Height: 1.78mm; Width: 0.063inch; Depth: 1.6mm; Thickness: 0.07inch; Radiation Hardening: No; REACH SVHC: No SVHC; Lead Free: Lead Free; ComponentLink1URL: https://datasheet.ciiva.com/11786/0900766b80dc2409-11786275.pdf?src-supplier=RSComponents; ComponentLink1Description: https://datasheet.ciiva.com/11786/0900766b80dc2409-11786275.pdf?src-supplier=RSComponents; ComponentLink2URL: https://datasheet.ciiva.com/154/cx7r-154082.pdf?src-supplier=Digi-Key; ComponentLink2Description: https://datasheet.ciiva.com/154/cx7r-154082.pdf?src-supplier=Digi-Key; ComponentLink3URL: https://datasheet.ciiva.com/2988/cx7r-2988162.pdf?src-supplier=Avnet; ComponentLink3Description: https://datasheet.ciiva.com/2988/cx7r-2988162.pdf?src-supplier=Avnet
simulation model CAP (Capacitor)
footprint CAPC3216X95N
footprint 1206
pins: 1, 2

## CAP .val? .pkg?_1
designator C?, comment 0.1uF
Cap Ceramic 0.1uF 16V X7R 5% SMD 0603 125C Paper T/R; Manufacturer: Kyocera AVX; Manufacturer Part Number: 0603YC104JAT2A; _Verified Footprint: .mfr-pn? footprint?; _Verified Symbol: .mfr-pn?; Capacitance: 100nF; Dissipation Factor: 3.5%; Insulation Resistance: 100GR; _Verified BOM: .mfr-pn?; Supplier 1: Newark; Supplier Part Number 1: 65R8200; ComponentLink1Description: New link; ComponentLink1URL: *; Supplier 2: Digi-Key; Supplier Part Number 2: 478-3726-1-ND; RoHS: Yes; Category: Ceramic Capacitors; Stock 2: 294639; Pricing 2: 1=0.24000, 10=0.16200, 50=0.09740, 100=0.08230, 500=0.05632, 1000=0.04982 (USD); Mount: Surface Mount,PCB; Case/Package: 0603; Number of Pins: 2; Case Code (Metric): 1608; Case Code (Imperial): 0603; Contact Plating: Tin,Matte; Min Operating Temperature: -55°C; Max Operating Temperature: 125°C; Tolerance: 5%; Voltage Rating: 16V; Packaging: Tape and Reel; Package Quantity: 1; Dielectric: X7R; Termination: SMD/SMT; Voltage Rating (DC): 16V; Voltage: 16V; Length: 1.6mm; Height: 0.9mm; Width: 0.032inch; Depth: 0.81mm; Thickness: 0.035inch; Radiation Hardening: No; REACH SVHC: No SVHC; Lead Free: Lead Free; ComponentLink2URL: https://datasheet.ciiva.com/34303/2010229-34303808.pdf?src-supplier=Jameco; ComponentLink2Description: https://datasheet.ciiva.com/34303/2010229-34303808.pdf?src-supplier=Jameco; ComponentLink3URL: https://datasheet.ciiva.com/11786/0900766b80ed4be2-11786358.pdf?src-supplier=RSComponents; ComponentLink3Description: https://datasheet.ciiva.com/11786/0900766b80ed4be2-11786358.pdf?src-supplier=RSComponents
simulation model CAP (Capacitor)
footprint 0603FB(1608mm)
pins: 1, 2

## CAP .val? .pkg?_2
designator C?, comment 0.1uF
Cap Ceramic 0.1uF 16V X7R 5% SMD 0603 125C Paper T/R; Manufacturer: Kyocera AVX; Manufacturer Part Number: 0603YC104JAT2A; _Verified Footprint: .mfr-pn? footprint?; _Verified Symbol: .mfr-pn?; Capacitance: 100nF; Dissipation Factor: 3.5%; Insulation Resistance: 100GR; _Verified BOM: .mfr-pn?; Supplier 1: Digi-Key; Supplier Part Number 1: 478-3726-1-ND; RoHS: Yes; Category: Ceramic Capacitors; Stock 1: 294639; Pricing 1: 1=0.24000, 10=0.16200, 50=0.09740, 100=0.08230, 500=0.05632, 1000=0.04982 (USD); Mount: Surface Mount,PCB; Case/Package: 0603; Number of Pins: 2; Case Code (Metric): 1608; Case Code (Imperial): 0603; Contact Plating: Tin,Matte; Min Operating Temperature: -55°C; Max Operating Temperature: 125°C; Tolerance: 5%; Voltage Rating: 16V; Packaging: Tape and Reel; Package Quantity: 1; Dielectric: X7R; Termination: SMD/SMT; Voltage Rating (DC): 16V; Voltage: 16V; Length: 1.6mm; Height: 0.9mm; Width: 0.032inch; Depth: 0.81mm; Thickness: 0.035inch; Radiation Hardening: No; REACH SVHC: No SVHC; Lead Free: Lead Free; ComponentLink1URL: https://datasheet.ciiva.com/34303/2010229-34303808.pdf?src-supplier=Jameco; ComponentLink1Description: https://datasheet.ciiva.com/34303/2010229-34303808.pdf?src-supplier=Jameco; ComponentLink2URL: https://datasheet.ciiva.com/11786/0900766b80ed4be2-11786358.pdf?src-supplier=RSComponents; ComponentLink2Description: https://datasheet.ciiva.com/11786/0900766b80ed4be2-11786358.pdf?src-supplier=RSComponents; ComponentLink3URL: https://datasheet.ciiva.com/1458/1679506-1458124.pdf?src-supplier=Element14; ComponentLink3Description: https://datasheet.ciiva.com/1458/1679506-1458124.pdf?src-supplier=Element14
simulation model CAP (Capacitor)
footprint 0603FB(1608mm)
pins: 1, 2

## CAP .val? .pkg?_3
designator C?, comment 1uF
KEMET - C0805C105J4RACTU. - CERAMIC CAPACITOR, 1UF, 16V, X7R, 5%, 08; _Verified Footprint: .mfr-pn? footprint?; _Verified Symbol: .mfr-pn?; _Verified BOM: .mfr-pn?; Supplier 1: Digi-Key; Supplier Part Number 1: 399-8001-1-ND; Manufacturer: KEMET; Manufacturer Part Number: C0805C105J4RACTU; RoHS: Yes; Category: Ceramic Capacitors; Stock 1: 70365; Pricing 1: 1=0.35000, 10=0.24000, 50=0.16780, 100=0.14370, 500=0.10782, 1000=0.09104 (USD); Mount: Surface Mount; Case/Package: 0805; Number of Pins: 2; Case Code (Imperial): 0805; Case Code (Metric): 2012; Dielectric Material: Ceramic; Min Operating Temperature: -55°C; Max Operating Temperature: 125°C; Capacitance: 1uF; Tolerance: 5%; Packaging: Tape and Reel; Package Quantity: 1; Voltage Rating: 16V; Voltage Rating (DC): 16V; Dielectric: X7R; Termination: SMD/SMT; Length: 2mm; Height: 0.9mm; Width: 0.049inch; Thickness: 0.039inch; Depth: 1.25mm; Lead Pitch: 0.75mm; REACH SVHC: No SVHC; ComponentLink1URL: http://www.farnell.com/datasheets/2746093.pdf?src-supplier=Farnell; ComponentLink1Description: http://www.farnell.com/datasheets/2746093.pdf?src-supplier=Farnell; ComponentLink2URL: http://components.arrow.com/part/dataview/0323_00070888?src-supplier=Arrow+Europe; ComponentLink2Description: http://components.arrow.com/part/dataview/0323_00070888?src-supplier=Arrow+Europe; ComponentLink3URL: http://www.farnell.com/datasheets/2315440.pdf?src-supplier=Farnell; ComponentLink3Description: http://www.farnell.com/datasheets/2315440.pdf?src-supplier=Farnell
simulation model CAP (Capacitor)
footprint 0805
pins: 1, 2

## CAP .val? .pkg?_4
designator C?, comment 10uF
MURATA - GRM31CR71E106KA12L - SMD Multilayer Ceramic Capacitor, 10 µF, 25 V, 1206 [3216 Metric], ± 10%, X7R, GRM Series; Voltage Rating: 25V; Supplier 1: Digi-Key; Supplier Part Number 1: 490-6518-1-ND; Manufacturer 1: Murata; Manufacturer Part Number 1: GRM31CR71E106KA12L; RoHS: Yes; Category: Ceramic Capacitors; Stock 1: 119267; Pricing 1: 1=0.72000, 10=0.52900, 50=0.42340, 100=0.36290, 500=0.28728, 1000=0.24191 (USD); Mount: Surface Mount; Case/Package: 1206; Number of Pins: 2; Case Code (Imperial): 1206; Case Code (Metric): 3216; Material: Ceramic; Min Operating Temperature: -55°C; Max Operating Temperature: 125°C; Capacitance: 10uF; Tolerance: 10%; Voltage Rating (DC): 25V; Packaging: Tape and Reel; Package Quantity: 1; Termination: SMD/SMT; Dielectric: X7R; Series: GRM; Voltage: 25V; Construction: Flat; Length: 3.2mm; Width: 1.6mm; Height: 1.6mm; Depth: 1.6mm; Thickness: 0.071inch; Radiation Hardening: No; RoHS Compliant: Yes; REACH SVHC: No SVHC; Lead Free: Lead Free; ComponentLink1URL: https://datasheet.ciiva.com/5418/product-5418961.pdf?src-supplier=Mouser; ComponentLink1Description: https://datasheet.ciiva.com/5418/product-5418961.pdf?src-supplier=Mouser; ComponentLink2URL: https://datasheet.ciiva.com/3777/4378grm31cr71e106ka1223-3777275.pdf?src-supplier=Arrow+Electronics; ComponentLink2Description: https://datasheet.ciiva.com/3777/4378grm31cr71e106ka1223-3777275.pdf?src-supplier=Arrow+Electronics; ComponentLink3URL: https://datasheet.ciiva.com/22746/415311-22746465.pdf?src-supplier=Element14; ComponentLink3Description: https://datasheet.ciiva.com/22746/415311-22746465.pdf?src-supplier=Element14; Manufacturer: Murata; Manufacturer Part Number: GRM31CR71E106KA12L
simulation model CAP (Capacitor)
footprint CAPC2012X125N
footprint 1206
pins: 1, 2

## CAP POLAR  220uF
designator C?, comment 220uF/100V  Manufacturer Part Number: EEV-TG2A221M
CAP ALUM 220UF 20% 100V SMD; Manufacturer: Panasonic; _Verified Footprint: .mfr-pn? footprint?; _Verified Symbol: .mfr-pn?; Life (Hours): 5000Hour; Ripple Current: 400mA; Leakage Current: 4uA; _Verified BOM: .mfr-pn?; Supplier 1: Digi-Key; Supplier Part Number 1: PCE3698TR-ND; RoHS: Yes; Category: Aluminum Electrolytic Capacitors; Stock 1: 875; Case/Package: Radial; Number of Pins: 2; Min Operating Temperature: -40°C; Max Operating Temperature: 125°C; Package Quantity: 125; Tolerance: 20%; Voltage Rating (DC): 100V; Packaging: Tape and Reel; Capacitance: 220uF; Voltage Rating: 100V; Termination: SMD/SMT; Diameter: 18mm; Length: 16.5mm; Height: 16.5mm; Radiation Hardening: No; Lead Free: Lead Free; ComponentLink1Description: https://www.chemi-con.com/upload/files/9/3/45226975052d6c71e04ba0.pdf; ComponentLink1URL: https://www.chemi-con.com/upload/files/9/3/45226975052d6c71e04ba0.pdf
simulation model CAP (Capacitor)
footprint EMVH101GDA221MMN0S
pins: 1, 2

## CAP POLAR  220uF_1
designator C?, comment 220uF/100V  Manufacturer Part Number: EEV-TG2A221M
CAP ALUM 220UF 20% 100V SMD; Manufacturer: Panasonic; _Verified Footprint: .mfr-pn? footprint?; _Verified Symbol: .mfr-pn?; Life (Hours): 5000Hour; Ripple Current: 400mA; Leakage Current: 4uA; _Verified BOM: .mfr-pn?; Supplier 1: Digi-Key; Supplier Part Number 1: PCE3698TR-ND; RoHS: Yes; Category: Aluminum Electrolytic Capacitors; Stock 1: 875; Case/Package: Radial; Number of Pins: 2; Min Operating Temperature: -40°C; Max Operating Temperature: 125°C; Package Quantity: 125; Tolerance: 20%; Voltage Rating (DC): 100V; Packaging: Tape and Reel; Capacitance: 220uF; Voltage Rating: 100V; Termination: SMD/SMT; Diameter: 18mm; Length: 16.5mm; Height: 16.5mm; Radiation Hardening: No; Lead Free: Lead Free; ComponentLink1Description: https://industrial.panasonic.com/cdbs/www-data/pdf/RDE0000/ABA0000C1187.pdf; ComponentLink1URL: https://industrial.panasonic.com/cdbs/www-data/pdf/RDE0000/ABA0000C1187.pdf*
simulation model CAP (Capacitor)
footprint EMVH101GDA221MMN0S
pins: 1, 2

## CAP POLAR  330uF
designator C?, comment 330uF/50V  Manufacturer Part Number: EMVH500ARA331MKG5S
CAP ALUM 330UF 20% 50V SMD; Manufacturer: United Chemi-con; _Verified Footprint: .mfr-pn? footprint?; _Verified Symbol: .mfr-pn?; Life (Hours): 5000Hour; Ripple Current: 350mA; Leakage Current: 4uA; _Verified BOM: .mfr-pn?; Supplier 1: Digi-Key; Supplier Part Number 1: 565-2329-2-ND; RoHS: Yes; Category: Aluminum Electrolytic Capacitors; Stock 1: 1200; Case/Package: Radial; Number of Pins: 2; Min Operating Temperature: -40°C; Max Operating Temperature: 125°C; Package Quantity: 200; Tolerance: 20%; Voltage Rating (DC): 50V; Packaging: Tape and Reel; Capacitance: 330uF; Voltage Rating: 50V; Termination: SMD/SMT; Diameter: 12.5mm; Length: 13mm; Height: 13mm; Radiation Hardening: No; Lead Free: Lead Free; ComponentLink1Description: https://www.chemi-con.com/upload/files/9/3/45226975052d6c71e04ba0.pdf; ComponentLink1URL: https://www.chemi-con.com/upload/files/9/3/45226975052d6c71e04ba0.pdf
simulation model CAP (Capacitor)
footprint EMVH500ARA331MKG5S
pins: 1, 2

## CPE4D36N
designator U?, comment CPE4D36P
Isolated Module DC DC Converter 1 Output 24V    4A 18V - 72V Input; Manufacturer: Semiconductor Circuits, Inc.; Manufacture2: NetPower; Manufacturer2 Part Number: ERS3240N004N25W; Notes: NetPower fit R38 remove R37; Supplier 1: Digi-Key; Manufacturer Part Number: CPE4D36P; RoHS: No; Category: Board Mount Modules; Stock 1: 37
footprint CPE4D36N (24V 4A 18-72VIN 8TH NEG ENB)
pins: 1, 2, 3, 4, 5, 6, 7, 8
text: +Vout; +Vin; +Sense; Trim; Enable; -Sense; -Vin; -Vout

## CPE8B48P
designator U?, comment CPE14B48
Isolated Module DC DC Converter 1 Output 12V    14A 36V - 75V Input; Manufacturer: Semiconductor Circuits, Inc.; Manufacturer Part Number: CPE14B48P; Manufacturer 2 Part Number: EBE4120N017N76; Alternate 3: Bel Fuse 0RCY-D4T12HG; Alternate 4: Flex Power PKB4413DAPIHS; notes: alternates stuff R40 remove R39; ComponentLink1Description: http://www.dcdc.com/PDF/CPE14B48_Datasheet_R_1.1.pdf; ComponentLink1URL: http://www.dcdc.com/PDF/CPE14B48_Datasheet_R_1.1.pdf; Manufacturer 2: NetPower
footprint CPE4D36N (24V 4A 18-72VIN 8TH NEG ENB)
pins: 1, 2, 3, 4, 5, 6, 7, 8
text: +Vout; +Vin; +Sense; Trim; Enable; -Sense; -Vin; -Vout

## DIO DPAK
designator D?, comment FERD20H100SB-TR
DIODE RECT 100V 20A DPAK; Manufacturer: ST Micro; _Verified Footprint: .mfr-pn? footprint?; _Verified BOM: .mfr-pn?; _Verified Symbol: .mfr-pn?; ComponentLink1Description: https://www.st.com/content/ccc/resource/technical/document/datasheet/group3/c3/5d/fd/bb/1c/52/46/a2/DM00272110/files/DM00272110.pdf/jcr:content/translations/en.DM00272110.pdf; ComponentLink1URL: https://www.st.com/content/ccc/resource/technical/document/datasheet/group3/c3/5d/fd/bb/1c/52/46/a2/DM00272110/files/DM00272110.pdf/jcr:content/translations/en.DM00272110.pdf; Current Rating: 20A; Manufacturer Part Number: FERD20H100SB-TR; Max Operating Temperature: 175°C; Mount: Surface Mount; Number of Pins: 3; Package / Case: DPAK; Packaging: Cut Tape (CT); Part Status: Active; RoHS: RoHS Compliant; Supplier 1: Digi-Key; Supplier Part Number 1: 497-16946-1-ND; Voltage Rating (AC): 100V; Voltage Rating (DC): 100V; Voltage Rating: 100V; Working Voltage: 100V
simulation model DIODE (Diode)
footprint DIOM2012X?N (Footprint not found)
footprint FERD20H100SB-TR-DPAK (DIODE RECT 100V 20A DPAK)
pins: A1 A, A2 A, K A